# EAGLE library part 2514-5002UB (library 3M_By_element14_Batch_1)
WIRE-BOARD CONN, HEADER, 14POS
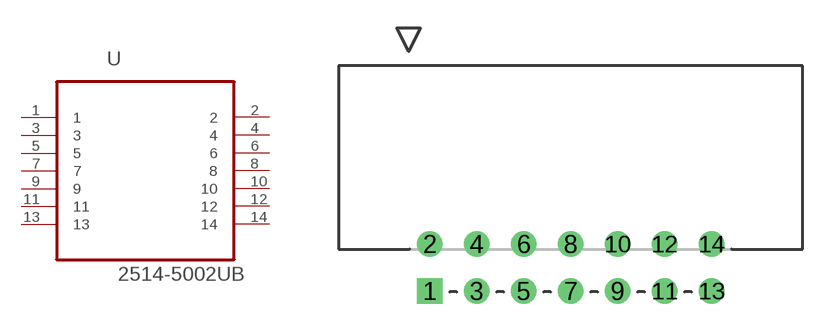
[diagram p17: symbol with the pads of 3M_2514-5002UB; footprint 3M_2514-5002UB]

Designator prefix U

## 2514-5002UB (MPN: 2514-5002UB; OC_FARNELL: 2188569; OC_NEWARK: 98F5895; PACKAGE: WIRE-BOARD CONN, HEADER, 14POS; SUPPLIER: 3M)  [3M_2514-5002UB]
1  1  pas
2  2  pas
3  3  pas
4  4  pas
5  5  pas
6  6  pas
7  7  pas
8  8  pas
9  9  pas
10  10  pas
11  11  pas
12  12  pas
13  13  pas
14  14  pas

## Footprint 3M_2514-5002UB (pad centres in mm)
drill 0.889 square: 1 0,-0.94
drill 0.889: 2 0,1.6; 3 2.54,-0.94; 4 2.54,1.6; 5 5.08,-0.94; 6 5.08,1.6; 7 7.62,-0.94; 8 7.62,1.6; 9 10.16,-0.94; 10 10.16,1.6; 11 12.7,-0.94; 12 12.7,1.6; 13 15.24,-0.94; 14 15.24,1.6